# Altium integrated library Simulation Special Function.IntLib: 38 symbols
Pins are listed as number, name and electrical type; pins without a type are passive.

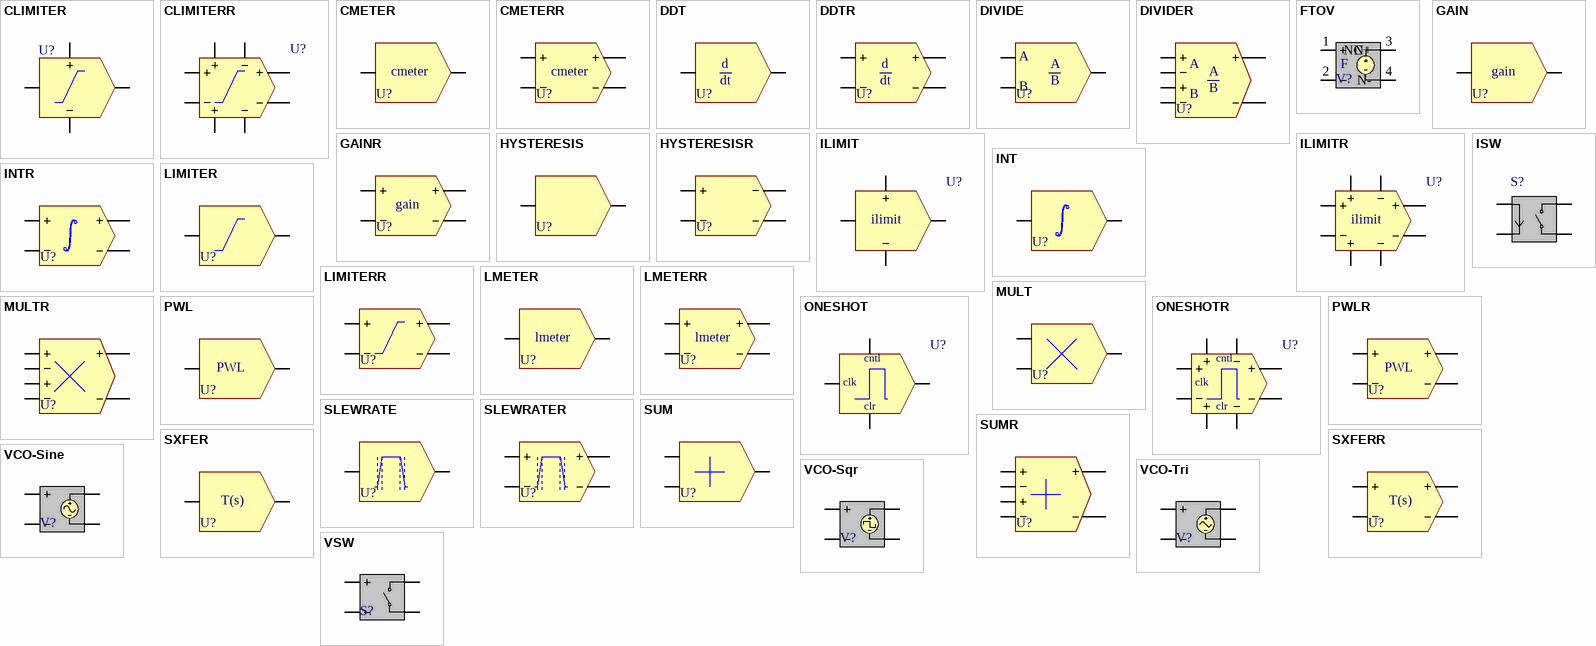
[diagram p0: symbols CLIMITER to VSW]

## CLIMITER
designator U?
Controlled limiter; Note: Function is similar to the GAIN block but the output is restricted to the range specified by the cntl_lower and cntl_upper pins; Note: PCB Footprint - Not required; Published: 11-Jul-2000; LatestRevisionDate: 17-Jul-2002; LatestRevisionNote: Re-released for DXP Platform.; PackageReference: Not Applicable; Publisher: Altium Limited
simulation model CLIMIT
pins: 1 in, 2 cntl_upper, 3 cntl_lower, 4 out

## CLIMITERR
designator U?
Controlled limiter; Note: Function is similar to the GAIN block but the output is restricted to the range specified by the cntl_lower and cntl_upper pins; Note: PCB Footprint - Not required; Published: 11-Jul-2000; LatestRevisionDate: 17-Jul-2002; LatestRevisionNote: Re-released for DXP Platform.; PackageReference: Not Applicable; Publisher: Altium Limited
simulation model CLIMIT
pins: 1 in_p, 2 in_n, 3 cntl_upper_p, 4 cntl_upper_n, 5 cntl_lower_p, 6 cntl_lower_n, 7 out_p, 8 out_n

## CMETER
designator U?
Capacitance meter; Note: Sensing device attached to a circuit node, produces a scaled output value equal to the total capacitance seen on its input.; Note: PCB Footprint - Not required; Published: 11-Jul-2000; LatestRevisionDate: 17-Jul-2002; LatestRevisionNote: Re-released for DXP Platform.; PackageReference: Not Applicable; Publisher: Altium Limited
simulation model CMETER
pins: 1 in, 2 out
text: cmeter

## CMETERR
designator U?
Capacitance meter; Note: Sensing device attached to a circuit node, produces a scaled output value equal to the total capacitance seen on its input.; Note: PCB Footprint - Not required; Published: 11-Jul-2000; LatestRevisionDate: 17-Jul-2002; LatestRevisionNote: Re-released for DXP Platform.; PackageReference: Not Applicable; Publisher: Altium Limited
simulation model CMETER
pins: 1 in_p, 2 in_n, 3 out_p, 4 out_n
text: cmeter

## DDT
designator U?
Differentiator block; Note: Approximates the time derivative of the input as incremental slope of the input signal since the previous time point; Note: PCB Footprint - Not required; Published: 11-Jul-2000; LatestRevisionDate: 17-Jul-2002; LatestRevisionNote: Re-released for DXP Platform.; PackageReference: Not Applicable; Publisher: Altium Limited
simulation model D_DT
pins: 1 in, 2 out
text: d; dt

## DDTR
designator U?
Differentiator block; Note: Approximates the time derivative of the input as incremental slope of the input signal since the previous time point; Note: PCB Footprint - Not required; Published: 11-Jul-2000; LatestRevisionDate: 17-Jul-2002; LatestRevisionNote: Re-released for DXP Platform.; PackageReference: Not Applicable; Publisher: Altium Limited
simulation model D_DT
pins: 1 in_p, 2 in_n, 3 out_p, 4 out_n
text: d; dt

## DIVIDE
designator U?
Two-quadrant divider; Note: Offsets the inputs, multiplies by respective gains, divides the results, multiplies the quotient by the output gain and offsets the result; Note: PCB Footprint - Not required; Published: 11-Jul-2000; LatestRevisionDate: 17-Jul-2002; LatestRevisionNote: Re-released for DXP Platform.; PackageReference: Not Applicable; Publisher: Altium Limited
simulation model DIVIDE
pins: 1 num, 2 den, 3 out
text: A; B

## DIVIDER
designator U?
Two-quadrant divider; Note: Offsets the inputs, multiplies by respective gains, divides the results, multiplies the quotient by the output gain and offsets the result; Note: PCB Footprint - Not required; Published: 11-Jul-2000; LatestRevisionDate: 17-Jul-2002; LatestRevisionNote: Re-released for DXP Platform.; PackageReference: Not Applicable; Publisher: Altium Limited
simulation model DIVIDE
pins: 1 num_p, 2 num_n, 3 den_p, 4 den_n, 5 out_p, 6 out_n
text: A; B

## FTOV
designator V?
Frequency to Voltage Converter; Published: 8-Jun-2000; LatestRevisionDate: 17-Jul-2002; LatestRevisionNote: Re-released for DXP Platform.; PackageReference: Not Applicable; Publisher: Altium Limited
simulation model FTOV (SUBCKT)
pins: 1 NC+, 2 NC-, 3 N+, 4 N-
text: F

## GAIN
designator U?
Simple gain block with optional offsets; Note: Input offset added to input, multiplies by the gain, adds the output offset; Note: PCB Footprint - Not required; Published: 11-Jul-2000; LatestRevisionDate: 17-Jul-2002; LatestRevisionNote: Re-released for DXP Platform.; PackageReference: Not Applicable; Publisher: Altium Limited
simulation model GAIN
pins: 1 in, 2 out
text: gain

## GAINR
designator U?
Simple gain block with optional offsets; Note: Input offset added to input, multiplies by the gain, adds the output offset; Note: PCB Footprint - Not required; Published: 11-Jul-2000; LatestRevisionDate: 17-Jul-2002; LatestRevisionNote: Re-released for DXP Platform.; PackageReference: Not Applicable; Publisher: Altium Limited
simulation model GAIN
pins: 1 in_p, 2 in_n, 3 out_p, 4 out_n
text: gain

## HYSTERESIS
designator U?
Hysteresis block; Note: Provides hysteresis to the output with respect to the input; Note: PCB Footprint - Not required; Published: 11-Jul-2000; LatestRevisionDate: 17-Jul-2002; LatestRevisionNote: Re-released for DXP Platform.; PackageReference: Not Applicable; Publisher: Altium Limited
simulation model HYST
pins: 1 in, 2 out

## HYSTERESISR
designator U?
Hysteresis block; Note: Provides hysteresis to the output with respect to the input; Note: PCB Footprint - Not required; Published: 11-Jul-2000; LatestRevisionDate: 17-Jul-2002; LatestRevisionNote: Re-released for DXP Platform.; PackageReference: Not Applicable; Publisher: Altium Limited
simulation model HYST
pins: 1 in_p, 2 in_n, 3 out_p, 4 out_n

## ILIMIT
designator U?
Current limiter; Note: Models the behavior of an operational amplifier or comparator device at a high level of abstraction; Note: PCB Footprint - Not required; Published: 11-Jul-2000; LatestRevisionDate: 17-Jul-2002; LatestRevisionNote: Re-released for DXP Platform.; PackageReference: Not Applicable; Publisher: Altium Limited
simulation model ILIMIT
pins: 1 in, 2 pos_pwr, 3 neg_pwr, 4 out
text: ilimit

## ILIMITR
designator U?
Current limiter; Note: Models the behavior of an operational amplifier or comparator device at a high level of abstraction; Note: PCB Footprint - Not required; Published: 11-Jul-2000; LatestRevisionDate: 17-Jul-2002; LatestRevisionNote: Re-released for DXP Platform.; PackageReference: Not Applicable; Publisher: Altium Limited
simulation model ILIMIT
pins: 1 in_p, 2 in_n, 3 pos_pwr_p, 4 pos_pwr_n, 5 neg_pwr_p, 6 neg_pwr_n, 7 out_p, 8 out_n
text: ilimit

## INT
designator U?
Integrator block; Note: Approximates the time integral of the input with limits imposed to prevent convergence errors from excessively large output values; Note: PCB Footprint - Not required; Published: 11-Jul-2000; LatestRevisionDate: 17-Jul-2002; LatestRevisionNote: Re-released for DXP Platform.; PackageReference: Not Applicable; Publisher: Altium Limited
simulation model INT
pins: 1 in, 2 out

## INTR
designator U?
Integrator block; Note: Approximates the time integral of the input with limits imposed to prevent convergence errors from excessively large output values; Note: PCB Footprint - Not required; Published: 11-Jul-2000; LatestRevisionDate: 17-Jul-2002; LatestRevisionNote: Re-released for DXP Platform.; PackageReference: Not Applicable; Publisher: Altium Limited
simulation model INT
pins: 1 in_p, 2 in_n, 3 out_p, 4 out_n

## ISW
designator S?
Current Controlled Switch; Published: 8-Jun-2000; LatestRevisionDate: 17-Jul-2002; LatestRevisionNote: Re-released for DXP Platform.; PackageReference: Not Applicable; Publisher: Altium Limited
simulation model ISW (CCSW)
pins: 1 N1+, 2 N1-, 3 N2+, 4 N2-

## LIMITER
designator U?
Limiter block; Note: Similar to gain block but output is limited by the output lower and upper limit parameters; Note: PCB Footprint - Not required; Published: 11-Jul-2000; LatestRevisionDate: 17-Jul-2002; LatestRevisionNote: Re-released for DXP Platform.; PackageReference: Not Applicable; Publisher: Altium Limited
simulation model LIMIT
pins: 1 in, 2 out

## LIMITERR
designator U?
Limiter block; Note: Similar to gain block but output is limited by the output lower and upper limit parameters; Note: PCB Footprint - Not required; Published: 11-Jul-2000; LatestRevisionDate: 17-Jul-2002; LatestRevisionNote: Re-released for DXP Platform.; PackageReference: Not Applicable; Publisher: Altium Limited
simulation model LIMIT
pins: 1 in_p, 2 in_n, 3 out_p, 4 out_n

## LMETER
designator U?
Inductance meter; Note: Attached to a circuit node, produces a scaled output equal to the total inductance seen on its input multiplied by the gain parameter; Note: PCB Footprint - Not required; Published: 11-Jul-2000; LatestRevisionDate: 17-Jul-2002; LatestRevisionNote: Re-released for DXP Platform.; PackageReference: Not Applicable; Publisher: Altium Limited
simulation model LMETER
pins: 1 in, 2 out
text: lmeter

## LMETERR
designator U?
Inductance meter; Note: Attached to a circuit node, produces a scaled output equal to the total inductance seen on its input multiplied by the gain parameter; Note: PCB Footprint - Not required; Published: 11-Jul-2000; LatestRevisionDate: 17-Jul-2002; LatestRevisionNote: Re-released for DXP Platform.; PackageReference: Not Applicable; Publisher: Altium Limited
simulation model LMETER
pins: 1 in_p, 2 in_n, 3 out_p, 4 out_n
text: lmeter

## MULT
designator U?
Multiplier block; Note: PCB Footprint - Not required; Published: 11-Jul-2000; LatestRevisionDate: 17-Jul-2002; LatestRevisionNote: Re-released for DXP Platform.; PackageReference: Not Applicable; Publisher: Altium Limited
simulation model MULT (SUBCKT)
pins: 1 in_a, 2 in_b, 3 out

## MULTR
designator U?
Multiplier block; Note: PCB Footprint - Not required; Published: 11-Jul-2000; LatestRevisionDate: 17-Jul-2002; LatestRevisionNote: Re-released for DXP Platform.; PackageReference: Not Applicable; Publisher: Altium Limited
simulation model MULTR (SUBCKT)
pins: 1 in_a_p, 2 in_a_n, 3 in_b_p, 4 in_b_n, 5 out_p, 6 out_n

## ONESHOT
designator U?
Controlled oneshot; Note: Controlled oneshot with parameterizable values of low and high peak output, input trigger value level, delay and output rise and fall times; Note: PCB Footprint - Not required; Published: 11-Jul-2000; LatestRevisionDate: 17-Sep-2003; LatestRevisionNote: Control pin renamed to 'cntl'. Clk_trig & pos_edge_trig parameters made optional.; PackageReference: Not Applicable; Publisher: Altium Limited
simulation model ONESHOT
pins: 1 clk, 2 cntl, 3 clr, 4 out

## ONESHOTR
designator U?
Controlled oneshot; Note: Controlled oneshot with parameterizable values of low and high peak output, input trigger value level, delay and output rise and fall times; Note: PCB Footprint - Not required; Published: 11-Jul-2000; LatestRevisionDate: 17-Sep-2003; LatestRevisionNote: Control pin renamed to 'cntl'. Clk_trig & pos_edge_trig parameters made optional.; PackageReference: Not Applicable; Publisher: Altium Limited
simulation model ONESHOT
pins: 1 clk_p, 2 clk_n, 3 cntl_p, 4 cntl_n, 5 clr_p, 6 clr_n, 7 out_p, 8 out_n
text: cntl; clk; clr

## PWL
designator U?
Piece-wise linear controlled source; Note: Similar to the gain block but the output follows an I/O relationship specified via the x_array and y_array coordinates.; Note: PCB Footprint - Not required; Published: 11-Jul-2000; LatestRevisionDate: 17-Jul-2002; LatestRevisionNote: Re-released for DXP Platform.; PackageReference: Not Applicable; Publisher: Altium Limited
simulation model PWL
pins: 1 in, 2 out

## PWLR
designator U?
Piece-wise linear controlled source; Note: Similar to the gain block but the output follows an I/O relationship specified via the x_array and y_array coordinates.; Note: PCB Footprint - Not required; Published: 11-Jul-2000; LatestRevisionDate: 17-Jul-2002; LatestRevisionNote: Re-released for DXP Platform.; PackageReference: Not Applicable; Publisher: Altium Limited
simulation model PWL
pins: 1 in_p, 2 in_n, 3 out_p, 4 out_n
text: PWL

## SLEWRATE
designator U?
Simple slew rate block; Note: Limits the absolute slope of the output to some maximum or minimum value; Note: PCB Footprint - Not required; Published: 11-Jul-2000; LatestRevisionDate: 17-Jul-2002; LatestRevisionNote: Re-released for DXP Platform.; PackageReference: Not Applicable; Publisher: Altium Limited
simulation model SLEW
pins: 1 in, 2 out

## SLEWRATER
designator U?
Simple slew rate block; Note: Limits the absolute slope of the output to some maximum or minimum value; Note: PCB Footprint - Not required; Published: 11-Jul-2000; LatestRevisionDate: 17-Jul-2002; LatestRevisionNote: Re-released for DXP Platform.; PackageReference: Not Applicable; Publisher: Altium Limited
simulation model SLEW
pins: 1 in_p, 2 in_n, 3 out_p, 4 out_n

## SUM
designator U?
Summer block; Note: PCB Footprint - Not required; Published: 11-Jul-2000; LatestRevisionDate: 17-Jul-2002; LatestRevisionNote: Re-released for DXP Platform.; PackageReference: Not Applicable; Publisher: Altium Limited
simulation model SUM (SUBCKT)
pins: 1 in_a, 2 in_b, 3 out

## SUMR
designator U?
Summer block; Note: PCB Footprint - Not required; Published: 11-Jul-2000; LatestRevisionDate: 17-Jul-2002; LatestRevisionNote: Re-released for DXP Platform.; PackageReference: Not Applicable; Publisher: Altium Limited
simulation model SUMR (SUBCKT)
pins: 1 in_a_p, 2 in_a_n, 3 in_b_p, 4 in_b_n, 5 out_p, 6 out_n

## SXFER
designator U?
S-domain transfer function; Note: Single input, single output transfer function in the Laplace transform variable s that allows production of an arbitrary s-domain function where the degree of the numerator is less than the degree of the denominator and all zero coefficients are included.; Note: PCB Footprint - Not required; Published: 11-Jul-2000; LatestRevisionDate: 17-Jul-2002; LatestRevisionNote: Re-released for DXP Platform.; PackageReference: Not Applicable; Publisher: Altium Limited
simulation model S_XFER
pins: 1 in, 2 out
text: T(s)

## SXFERR
designator U?
S-domain transfer function; Note: Single input, single output transfer function in the Laplace transform variable s that allows production of an arbitrary s-domain function where the degree of the numerator is less than the degree of the denominator and all zero coefficients are included.; Note: PCB Footprint - Not required; Published: 11-Jul-2000; LatestRevisionDate: 17-Jul-2002; LatestRevisionNote: Re-released for DXP Platform.; PackageReference: Not Applicable; Publisher: Altium Limited
simulation model S_XFER
pins: 1 in_p, 2 in_n, 3 out_p, 4 out_n
text: T(s)

## VCO-Sine
designator V?
Sinusoidal Voltage Controlled Oscillator; Published: 8-Jun-2000; LatestRevisionDate: 17-Jul-2002; LatestRevisionNote: Re-released for DXP Platform.; PackageReference: Not Applicable; Publisher: Altium Limited
simulation model SINEVCO (SUBCKT)
pins: 1 NC+, 2 NC-, 3 N+, 4 N-

## VCO-Sqr
designator V?
Square Voltage Controlled Oscillator; Published: 8-Jun-2000; LatestRevisionDate: 17-Jul-2002; LatestRevisionNote: Re-released for DXP Platform.; PackageReference: Not Applicable; Publisher: Altium Limited
simulation model SQRVCO (SUBCKT)
pins: 1 NC+, 2 NC-, 3 N+, 4 N-

## VCO-Tri
designator V?
Triangular Voltage Controlled Oscillator; Published: 8-Jun-2000; LatestRevisionDate: 17-Jul-2002; LatestRevisionNote: Re-released for DXP Platform.; PackageReference: Not Applicable; Publisher: Altium Limited
simulation model TRIVCO (SUBCKT)
pins: 1 NC+, 2 NC-, 3 N+, 4 N-

## VSW
designator S?
Voltage Controlled Switch; Published: 8-Jun-2000; LatestRevisionDate: 17-Jul-2002; LatestRevisionNote: Re-released for DXP Platform.; PackageReference: Not Applicable; Publisher: Altium Limited
simulation model VSW (VCSW)
pins: 1 N1+, 2 N1-, 3 N2+, 4 N2-